# Altium footprint library JMPKG.PcbLib: 337 footprints (part 6 of 22)
Each footprint in its own frame and in the unit in brackets; x right, y up, seen from the top. Pads: shape width x height; smd on the part's side, far side on the other; paste and mask are expansions set on the pad; w line width, h text height; cw(c..) or ccw(c..) is an arc to the next point about the centre after c.
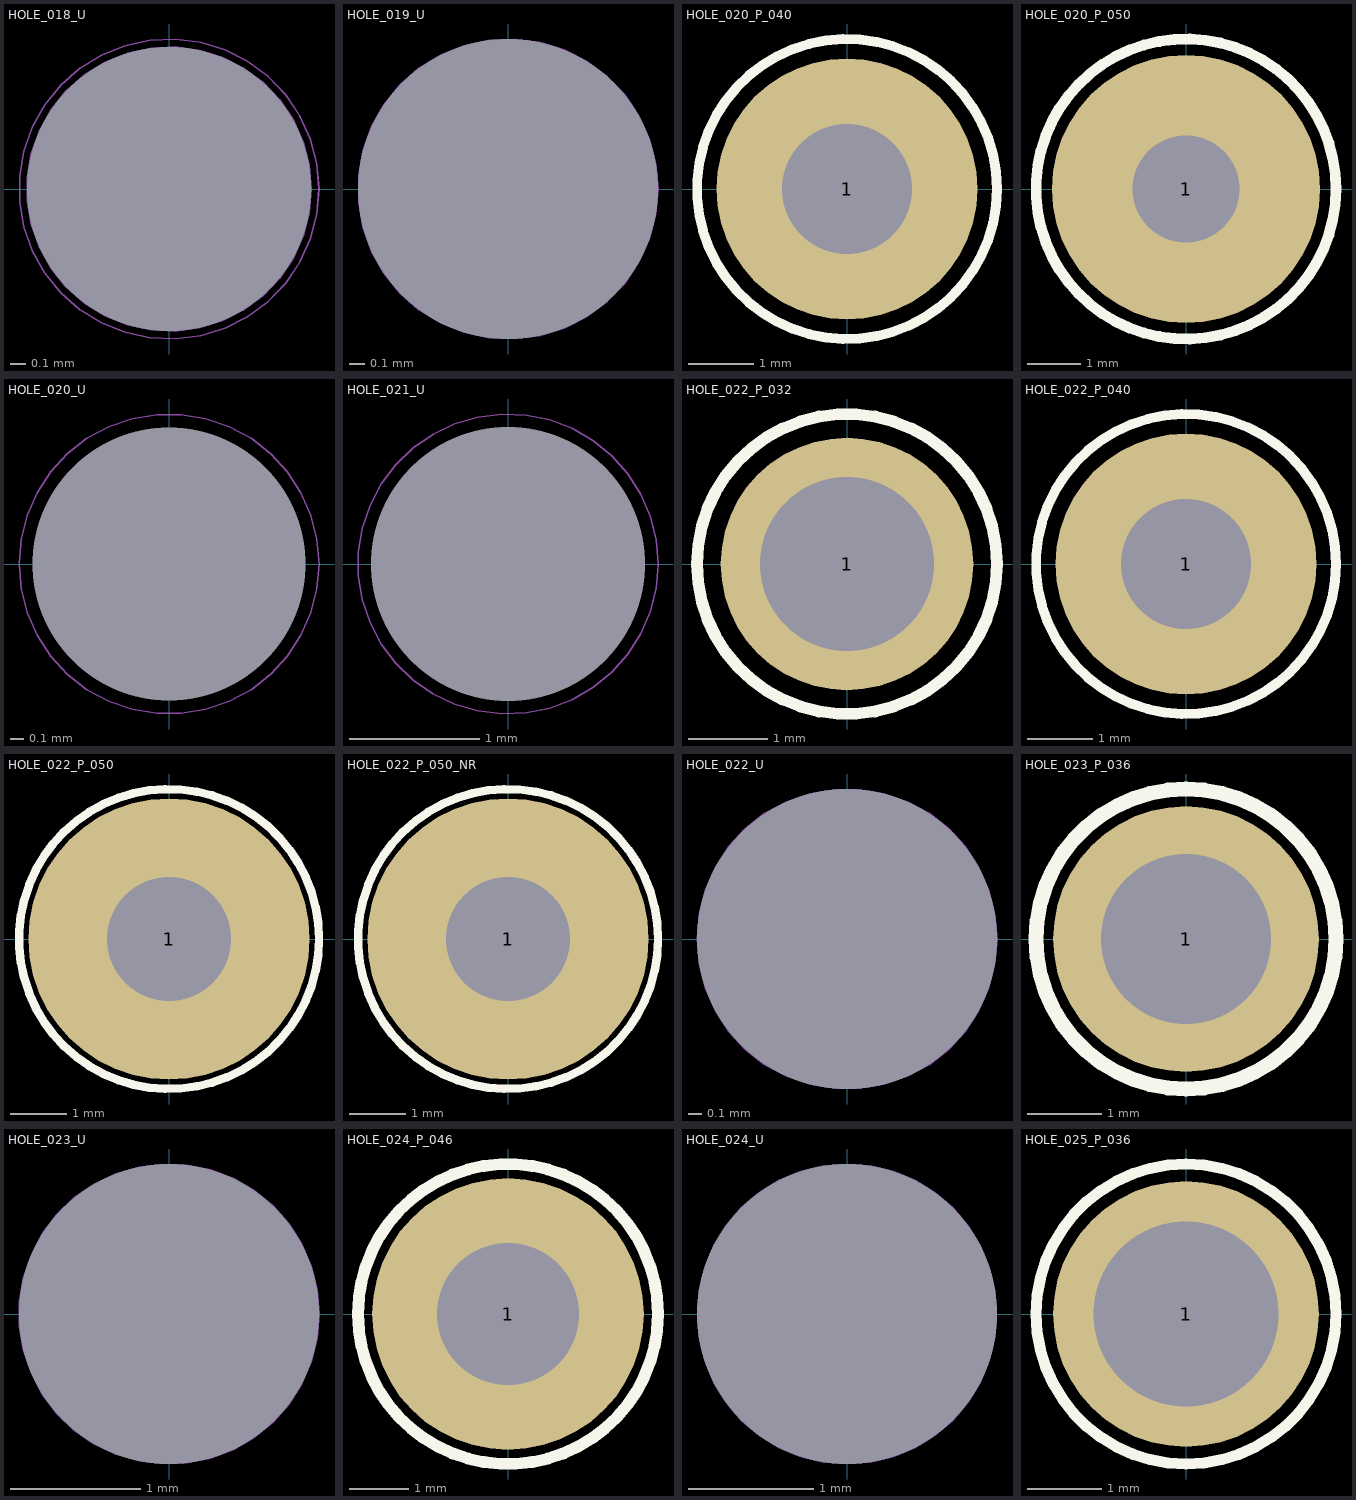
[diagram p5: the footprints below, top view; thin cyan lines are the x and y axes]

## HOLE_018_U [mm]
pads (1):
  round 0 hole 1.8 unplated: 1(0,0)
Mechanical 15:
  circle w0.01: c0,0 r0.9
Mechanical 16:
  circle w0.01: c0,0 r0.9
Mechanical 20:
  circle w0.01: c0,0 r0.95

## HOLE_019_U [mm]
pads (1):
  round 0 hole 1.9 unplated: 1(0,0)
Mechanical 15:
  circle w0.01: c0,0 r0.95
Mechanical 16:
  circle w0.01: c0,0 r0.95
Mechanical 20:
  circle w0.01: c0,0 r0.9

## HOLE_020_P_040 [mm]
pads (1):
  round 4 hole 2 mask+0.05: 1(0,0)
Top Overlay:
  circle w0.15: c0,0 r2.3
Drill Drawing:
  circle w0.01: c0,0 r1
Multi-Layer:
  text "Value" at -0.988,-1.575 h0.6
Mechanical 20:
  circle w0.01: c0,0 r2.3

## HOLE_020_P_050 [mm]
pads (1):
  round 5 hole 2 mask+0.1: 1(0,0)
Top Overlay:
  circle w0.2: c0,0 r2.8
Mechanical 15:
  circle w0.1: c0,0 r1
Mechanical 16:
  circle w0.1: c0,0 r1
Multi-Layer:
  text "Value" at -1.285,-1.875 h0.75
Mechanical 20:
  circle w0.1: c0,0 r2.8

## HOLE_020_U [mm]
pads (1):
  round 0 hole 2 unplated: 1(0,0)
Drill Drawing:
  circle w0.01: c0,0 r1
Mechanical 20:
  circle w0.01: c0,0 r1.1

## HOLE_021_U [mm]
pads (1):
  round 0 hole 2.1 unplated: 1(0,0)
Drill Drawing:
  circle w0.01: c0,0 r1.051
Mechanical 20:
  circle w0.01: c0,0 r1.15

## HOLE_022_P_032 [mm]
pads (1):
  round 3.2 hole 2.2 mask+0.05: 1(0,0)
Top Overlay:
  circle w0.15: c0,0 r1.9
Mechanical 15:
  circle w0.01: c0,0 r1.1
Mechanical 16:
  circle w0.01: c0,0 r1.1
Multi-Layer:
  text "Value" at -0.988,-1.505 h0.6
Mechanical 20:
  circle w0.01: c0,0 r1.9

## HOLE_022_P_040 [mm]
pads (1):
  round 4 hole 2 mask+0.05: 1(0,0)
Top Overlay:
  circle w0.15: c0,0 r2.3
Mechanical 15:
  circle w0.01: c0,0 r1
Mechanical 16:
  circle w0.01: c0,0 r1
Multi-Layer:
  text "Value" at -0.988,-1.505 h0.6
Mechanical 20:
  circle w0.01: c0,0 r2.3

## HOLE_022_P_050 [mm]
pads (1):
  round 5 hole 2.2 mask+0.05: 1(0,0)
Top Overlay:
  circle w0.15: c0,0 r2.667
Mechanical 15:
  circle w0.1: c0,0 r1.1
Mechanical 16:
  circle w0.1: c0,0 r1.1
Multi-Layer:
  text "Value" at -0.988,-1.302 h0.6
Mechanical 20:
  circle w0.1: c0,0 r2.667

## HOLE_022_P_050_NR [mm]
pads (1):
  round 5 hole 2.2 mask+0.05: 1(0,0)
Top Overlay:
  circle w0.15: c0,0 r2.667
Mechanical 15:
  circle w0.1: c0,0 r1.1
Mechanical 16:
  circle w0.1: c0,0 r1.1
Multi-Layer:
  text "Value" at -0.988,-1.302 h0.6
Mechanical 20:
  circle w0.1: c0,0 r2.667

## HOLE_022_U [mm]
pads (1):
  round 0 hole 2.2 unplated: 1(0,0)
Mechanical 15:
  circle w0.01: c0,0 r1.1
Mechanical 16:
  circle w0.01: c0,0 r1.1

## HOLE_023_P_036 [mm]
pads (1):
  round 3.6 hole 2.3 mask+0.1: 1(0,0)
Top Overlay:
  circle w0.2: c0,0 r2.032
Mechanical 15:
  circle w0.1: c0,0 r1.15
Mechanical 16:
  circle w0.1: c0,0 r1.15
Multi-Layer:
  text "Value" at -1.235,-1.377 h0.75
Mechanical 20:
  circle w0.1: c0,0 r2.032

## HOLE_023_U [mm]
pads (1):
  round 0 hole 2.3 unplated: 1(0,0)
Mechanical 15:
  circle w0.01: c0,0 r1.15
Mechanical 16:
  circle w0.01: c0,0 r1.15

## HOLE_024_P_046 [mm]
pads (1):
  round 4.6 hole 2.4 mask+0.05: 1(0,0)
Top Overlay:
  circle w0.2: c0,0 r2.541
Mechanical 15:
  circle w0.01: c0,0 r1.2
Mechanical 16:
  circle w0.01: c0,0 r1.2
Multi-Layer:
  text "Value" at -1.24,-1.83 h0.75
Mechanical 20:
  circle w0.01: c0,0 r2.54

## HOLE_024_U [mm]
pads (1):
  round 0 hole 2.4 unplated: 1(0,0)
Mechanical 15:
  circle w0.01: c0,0 r1.2
Mechanical 16:
  circle w0.01: c0,0 r1.2

## HOLE_025_P_036 [mm]
pads (1):
  round 3.6 hole 2.5 mask+0.05: 1(0,0)
Top Overlay:
  circle w0.15: c0,0 r2.032
Mechanical 15:
  circle w0.01: c0,0 r1.25
Mechanical 16:
  circle w0.01: c0,0 r1.25
Multi-Layer:
  text "Value" at -0.943,-0.749 h0.6
  text "Value" at -0.816,-1.511 h0.6
Mechanical 20:
  circle w0.01: c0,0 r2.032